# Altium footprint library SIP900W100P500L3000H1250Q6.PcbLib: 1 footprints
Each footprint in its own frame and in the unit in brackets; x right, y up, seen from the top. Pads: shape width x height; smd on the part's side, far side on the other; paste and mask are expansions set on the pad; w line width, h text height; cw(c..) or ccw(c..) is an arc to the next point about the centre after c.
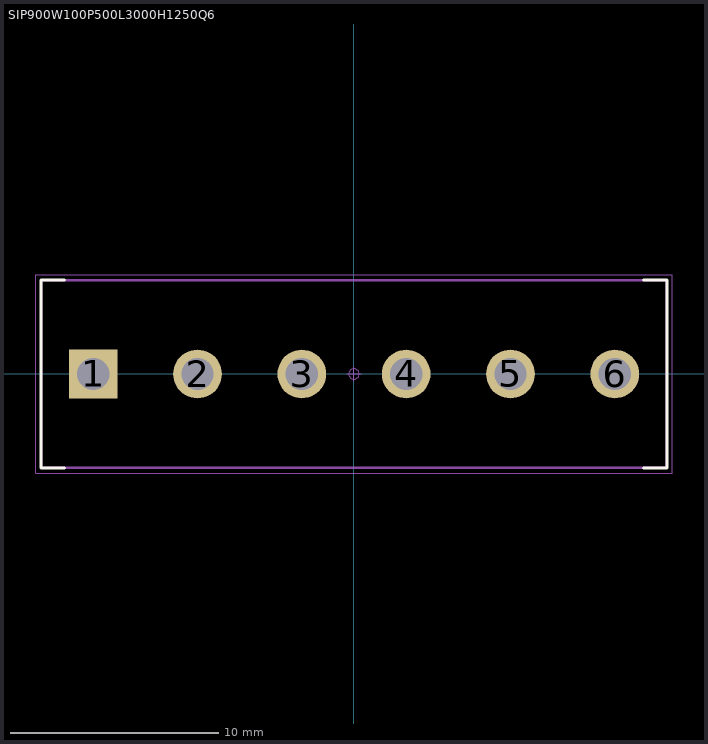
[diagram p0: the footprint, top view; thin cyan lines are the x and y axes]

## SIP900W100P500L3000H1250Q6 [mm] "SIP, 5.00 mm pitch; 6 pin, 30.00 mm L X 9.00 mm W X 12.50 mm H body"
height 12.5
pads (6):
  rect 2.33x2.33 / inner round 2.33 / far side rect 2.33x2.33 hole 1.55 paste-2.33: 1(-12.5,0)
  round 2.33 hole 1.55 paste-2.33: 2(-7.5,0) 3(-2.5,0) 4(2.5,0) 5(7.5,0) 6(12.5,0)
Top Overlay:
  lines w0.15: -13.89,-4.5 -15,-4.5 -15,4.5 -13.89,4.5 ; 13.89,-4.5 15,-4.5 15,4.5 13.89,4.5
Mechanical 3:
  lines w0.12: -15,-4.5 15,-4.5 15,4.5 -15,4.5 -15,-4.5
Mechanical 5:
  lines w0.025: -13,-0.5 -13,0.5 -12,0.5 -12,-0.5 -13,-0.5 ; -8,-0.5 -8,0.5 -7,0.5 -7,-0.5 -8,-0.5 ; -3,-0.5 -3,0.5 -2,0.5 -2,-0.5 -3,-0.5 ; 2,-0.5 2,0.5 3,0.5 3,-0.5 2,-0.5 ; 7,-0.5 7,0.5 8,0.5 8,-0.5 7,-0.5 ; 12,-0.5 12,0.5 13,0.5 13,-0.5 12,-0.5
Mechanical 7:
  circle w0.05: c0,0 r0.25
  lines w0.025: -15,-4.5 15,-4.5 15,4.5 -15,4.5 -15,-4.5
  lines w0.05: -0.35,0 0.35,0 ; 0,-0.35 0,0.35 ; -15.25,-4.75 15.25,-4.75 15.25,4.75 -15.25,4.75 -15.25,-4.75
3D body "SIP900W100P500L3000H1250Q6.STEP": height 12.5, standoff -2, extent -15,-4.5 15,4.5